# EAGLE library part SIMLOCK-C707_10M006_512_2 (library bodger)
C707A SIMLOCK® 2.5 mm with wide solder tails Source: Data sheet <http://www.amphenol.info/downloads/C707_10M006_512_2.pdf>
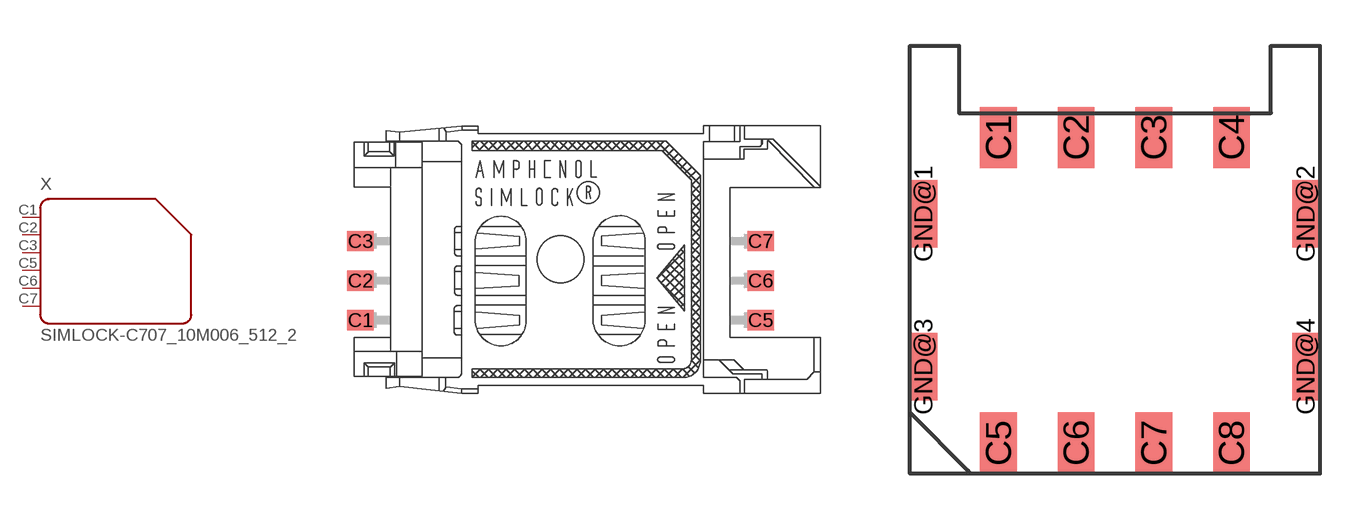
[diagram p38: symbol with the pads of C707_10M006_512_2; footprints C707_10M006_512_2, SIM7050]

Designator prefix X

## SIMLOCK-C707_10M006_512_2 (OC_FARNELL: unknown; OC_NEWARK: unknown)  [C707_10M006_512_2]
C1  VCC  pas
C2  RST  pas
C3  CLK  pas
C5  GND  pas
C6  VPP  pas
C7  I/O  pas

## SIMLOCK-C707_10M006_512_2MICROSIM  [SIM7050]
Pads as for C707_10M006_512_2

## SIMLOCK-C707_10M006_512_2NANOSIM  [SIM8050]
CLK  CLK  pas
GND  GND  pas
I/O  I/O  pas
RST  RST  pas
VCC  VCC  pas
VPP  VPP  pas

## Footprint C707_10M006_512_2 (pad centres in mm)
C707A SIMLOCK® 2.5 mm with wide solder tails Source: Data sheet <http://www.amphenol.info/downloads/C707_10M006_512_2.pdf>
smd 1.7 x 1.3: C1 -12.85,-3.915; C2 -12.85,-1.375; C3 -12.85,1.165; C5 12.85,-3.915; C6 12.85,-1.375; C7 12.85,1.165

## Footprint SIM7050 (pad centres in mm)
smd 1.2 x 2: C1 -3.81,5; C2 -1.27,5; C3 1.27,5; C4 3.81,5; C5 -3.81,-5; C6 -1.27,-5; C7 1.27,-5; C8 3.81,-5
smd 0.9 x 2.2: GND@1 -6.25,2.5; GND@2 6.25,2.5; GND@3 -6.25,-2.5; GND@4 6.25,-2.5

## Footprint SIM8050 (pad centres in mm)
smd 1 x 1.1: CLK -2.54,-5.9; GND 2.54,5.9; I/O -2.54,5.9; RST 0,-5.9; VCC 2.54,-5.9; VPP 0,5.9
smd 1 x 3: G1 5.3,0; G2 -5.3,0
hole 0.9 at -4.4,-4.15
hole 0.7 at 4.6,4.15